# Altium schematic symbol library DY11-030S-2.SchLib: 1 symbol
Pins are listed as number, name and electrical type; pins without a type are passive.

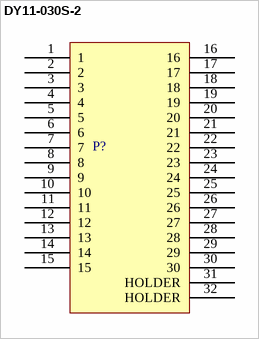
[diagram p0: symbol DY11-030S-2]

## DY11-030S-2
designator P?, comment OK  (value not drawn)
DY SERIES 0.5mm PITCH FLOATING CONNECTOR
pins: 1, 2, 3, 4, 5, 6, 7, 8, 9, 10, 11, 12, 13, 14, 15, 16, 17, 18, 19, 20, 21, 22, 23, 24, 25, 26, 27, 28, 29, 30, 31 HOLDER, 32 HOLDER